# EAGLE library part LTC3113 (library GlacTracker)
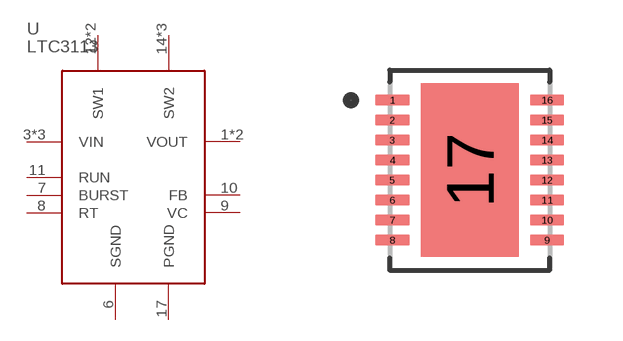
[diagram p2: symbol with the pads of SON50P500X400X80-17N; footprint SON50P500X400X80-17N]

Designator prefix U

## LTC3113  [SON50P500X400X80-17N]
1  VOUT
2  VOUT
3  VIN
4  VIN
5  VIN
6  SGND
7  BURST
8  RT
9  VC
10  FB
11  RUN
12  SW1
13  SW1
14  SW2
15  SW2
16  SW2
17  PGND

## Footprint SON50P500X400X80-17N (pad centres in mm)
smd 0.86 x 0.27: 1 -1.935,1.75; 2 -1.935,1.25; 3 -1.935,0.75; 4 -1.935,0.25; 5 -1.935,-0.25; 6 -1.935,-0.75; 7 -1.935,-1.25; 8 -1.935,-1.75; 9 1.935,-1.75; 10 1.935,-1.25; 11 1.935,-0.75; 12 1.935,-0.25; 13 1.935,0.25; 14 1.935,0.75; 15 1.935,1.25; 16 1.935,1.75
smd 2.44 x 4.34: 17 0,0